# EAGLE library part ADXL367 (library ADXL367 - Accelerometer)
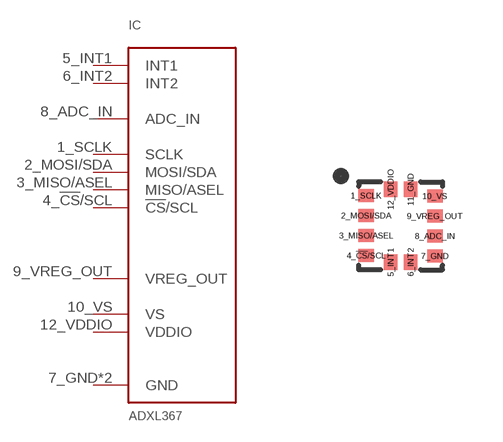
[diagram p0: symbol with the pads of LGA-12; footprint LGA-12]

Designator prefix IC

## ADXL367  [LGA-12]
1_SCLK  SCLK  in
2_MOSI/SDA  MOSI/SDA  in
3_MISO/ASEL  MISO/ASEL  out
4_!CS!/SCL  !CS!/SCL  in
5_INT1  INT1  out
6_INT2  INT2  out
7_GND  GND  pwr
8_ADC_IN  ADC_IN  hiz
9_VREG_OUT  VREG_OUT  pwr
10_VS  VS  pwr
11_GND  GND  pwr
12_VDDIO  VDDIO  pwr

## Footprint LGA-12 (pad centres in mm)
smd 0.39 x 0.33: 1_SCLK -0.863,0.755; 2_MOSI/SDA -0.863,0.255; 3_MISO/ASEL -0.863,-0.245; 4_!CS!/SCL -0.863,-0.745; 7_GND 0.858,-0.757; 8_ADC_IN 0.858,-0.258; 9_VREG_OUT 0.858,0.242; 10_VS 0.858,0.743
smd 0.33 x 0.39: 5_INT1 -0.25,-0.912; 6_INT2 0.25,-0.912; 11_GND 0.25,0.91; 12_VDDIO -0.25,0.91